# Altium footprint library TO-220F_Heatsink3.8.PcbLib: 1 footprints
Each footprint in its own frame and in the unit in brackets; x right, y up, seen from the top. Pads: shape width x height; smd on the part's side, far side on the other; paste and mask are expansions set on the pad; w line width, h text height; cw(c..) or ccw(c..) is an arc to the next point about the centre after c.
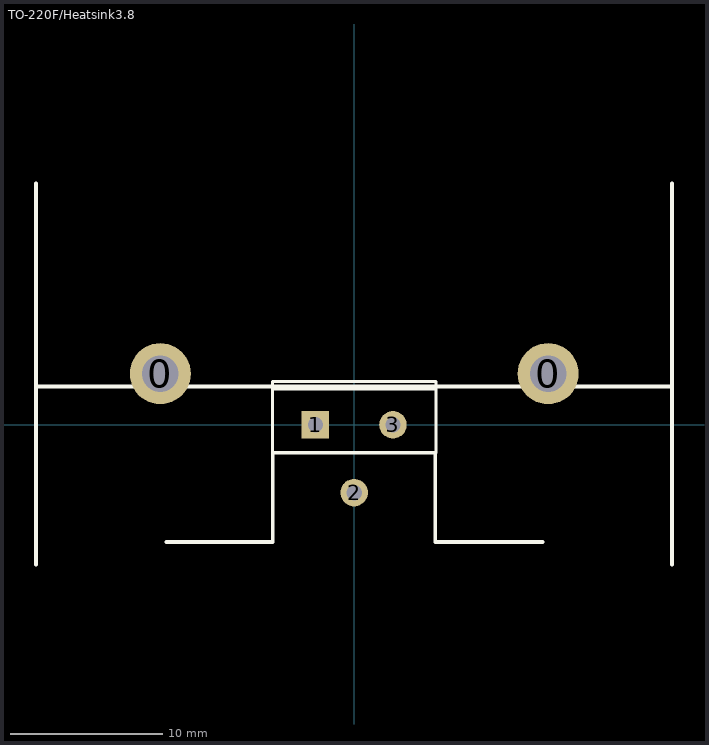
[diagram p0: the footprint, top view; thin cyan lines are the x and y axes]

## TO-220F/Heatsink3.8 [mm] "TO-220AB w/ 3.8C/W PCB mount heatsink"
height 38.1
pads (5):
  round 4 hole 2.4: 0(-12.7,3.35) 0(12.7,3.35)
  rect 1.8x1.8 hole 1: 1(-2.54,0)
  round 1.8 hole 1: 2(0,-4.445) 3(2.54,0)
Top Overlay:
  lines w0.2: -5.35,-1.85 5.35,-1.85 ; -5.35,-1.85 -5.35,2.85 ; -5.35,-1.85 5.35,-1.85 ; -5.35,-1.85 -5.35,2.85 ; -5.35,2.85 5.35,2.85 ; 5.35,-1.85 5.35,2.85 ; 5.35,-1.85 5.35,2.85 ; -5.35,2.35 5.35,2.35 -5.35,2.35
  lines w0.254: -20.853,-9.169 -20.853,15.824 ; -20.8,2.5 20.8,2.5 ; -12.294,-7.671 -5.334,-7.671 -5.334,-1.829 5.309,-1.829 5.309,-7.671 12.344,-7.671 ; 20.828,-9.169 20.828,15.824
3D body: height 50.8, standoff -3.51, extent -20.752,-9.155 20.861,15.81